# Altium footprint library SOICW32.PcbLib: 1 footprints
Each footprint in its own frame and in the unit in brackets; x right, y up, seen from the top. Pads: shape width x height; smd on the part's side, far side on the other; paste and mask are expansions set on the pad; w line width, h text height; cw(c..) or ccw(c..) is an arc to the next point about the centre after c.
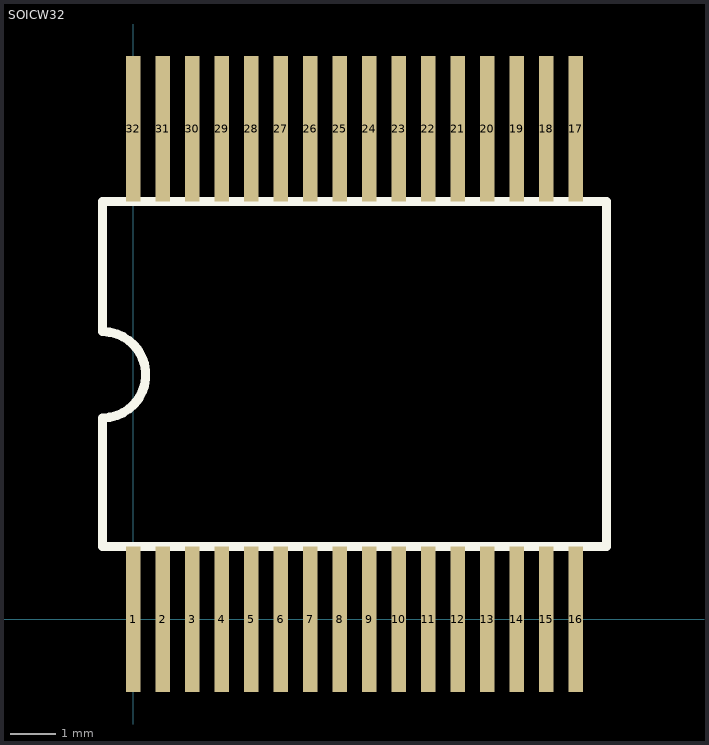
[diagram p0: the footprint, top view; thin cyan lines are the x and y axes]

## SOICW32 [mm]
height 2.65
pads (32):
  rect 0.325x3.208 smd: 1(0,0) 2(0.65,0) 3(1.3,0) 4(1.95,0) 5(2.6,0) 6(3.25,0) 7(3.9,0) 8(4.55,0) 9(5.2,0) 10(5.85,0) 11(6.5,0) 12(7.15,0) 13(7.8,0) 14(8.45,0) 15(9.1,0) 16(9.75,0) 17(9.75,10.808) 18(9.1,10.808) 19(8.45,10.808) 20(7.8,10.808) 21(7.15,10.808) 22(6.5,10.808) 23(5.85,10.808) 24(5.2,10.808) 25(4.55,10.808) 26(3.9,10.808) 27(3.25,10.808) 28(2.6,10.808) 29(1.95,10.808) 30(1.3,10.808) 31(0.65,10.808) 32(0,10.808)
TopOverlay:
  lines w0.203: -0.675,1.604 10.425,1.604 10.425,9.204 -0.675,9.204 -0.675,6.338 cw(c-0.675,5.387) -0.675,4.436 -0.675,1.604